# Altium schematic symbol library FT231XS-R.SchLib: 1 symbol
Pins are listed as number, name and electrical type; pins without a type are passive.

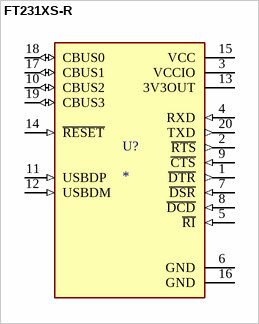
[diagram p0: symbol FT231XS-R]

## FT231XS-R
designator U?
USB Bridge, USB to UART USB 2.0 UART Interface 20-SSOP; MF: FTDI,; MP: FT231XS-R; Package: SSOP-20 FTDI; Price: None; Check_prices: https://www.snapeda.com/parts/FT231XS-R/FTDI%252C+Future+Technology+Devices+International+Ltd/view-part/?ref=eda; Value: *; SnapEDA_Link: https://www.snapeda.com/parts/FT231XS-R/FTDI%252C+Future+Technology+Devices+International+Ltd/view-part/?ref=snap; Availability: In Stock; Purchase-URL: https://pricing.snapeda.com/search?q=FT231XS-R&ref=eda
footprint SOP63P599X175-20N
pins: 1 ~{DTR} (out), 2 ~{RTS} (out), 3 VCCIO (power), 4 RXD (in), 5 ~{RI} (in), 6 GND (power), 7 ~{DSR} (in), 8 ~{DCD} (in), 9 ~{CTS} (in), 10 CBUS2 (io), 11 USBDP (in), 12 USBDM (in), 13 3V3OUT (power), 14 ~{RESET} (in), 15 VCC (power), 16 GND (power), 17 CBUS1 (io), 18 CBUS0 (io), 19 CBUS3 (io), 20 TXD (out)